# Altium footprint library VSON-10.PcbLib: 1 footprints
Each footprint in its own frame and in the unit in brackets; x right, y up, seen from the top. Pads: shape width x height; smd on the part's side, far side on the other; paste and mask are expansions set on the pad; w line width, h text height; cw(c..) or ccw(c..) is an arc to the next point about the centre after c.
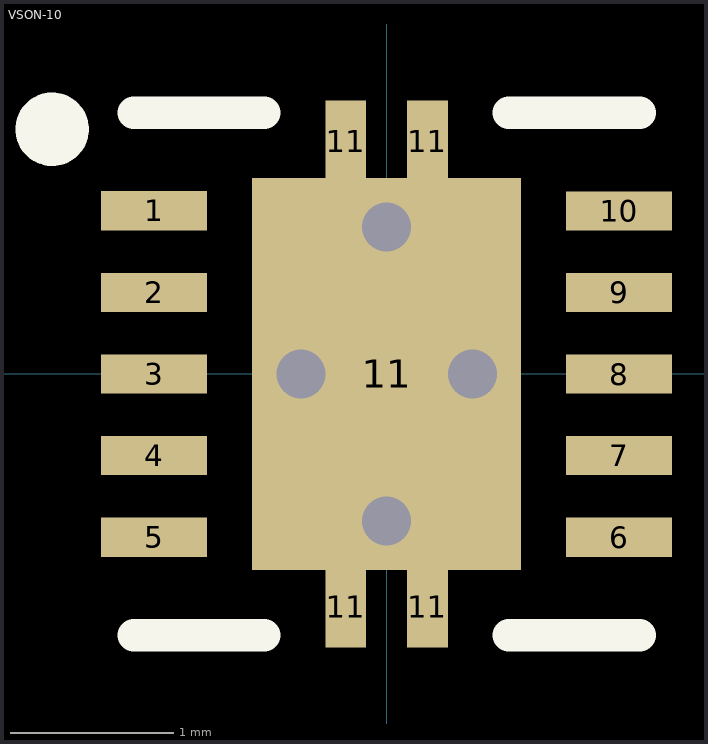
[diagram p0: the footprint, top view; thin cyan lines are the x and y axes]

## VSON-10 [mm]
pads (15):
  rect 0.65x0.24 smd mask+0.07: 1(-1.425,1) 2(-1.425,0.5) 3(-1.425,0) 4(-1.425,-0.5) 5(-1.425,-1) 6(1.425,-1) 7(1.425,-0.5) 8(1.425,0) 9(1.425,0.5) 10(1.425,1)
  rect 0.25x0.5 smd mask+0.07: 11(-0.25,-1.425) 11(-0.25,1.425) 11(0.25,-1.425) 11(0.25,1.425)
  rect 1.65x2.4 smd mask+0.07: 11(0,0)
via 0,-0.9 diameter 0.6 hole 0.3
via 0,0.9 diameter 0.6 hole 0.3
via 0.525,0 diameter 0.6 hole 0.3
via -0.525,0 diameter 0.6 hole 0.3
Top Overlay:
  circle w0.25: c-2.05,1.5 r0.1
  lines w0.2: -1.55,-1.6 -0.75,-1.6 ; -1.55,1.6 -0.75,1.6 ; 0.75,-1.6 1.55,-1.6 ; 0.75,1.6 1.55,1.6
3D body: height 1, standoff 0, extent -1.55,-1.55 1.55,1.55